# EAGLE library part JTI_BALUN (library kits)
JTI 1:2 BALUN
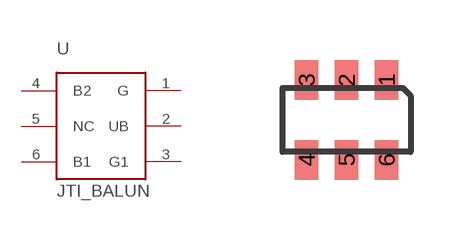
[diagram p0: symbol with the pads of JTIBALUN; footprint JTIBALUN]

Designator prefix -

## JTI_BALUN  [JTIBALUN]
1  G
2  UB
3  G1
4  B2
5  NC
6  B1

## Footprint JTIBALUN (pad centres in mm)
smd 0.59 x 0.99: 1 1,1; 2 0,1; 3 -1,1; 4 -1,-1; 5 0,-1; 6 1,-1